# Altium footprint library PCB - DIODES - BROADCOM LED 6-PLCC 3028 2.0MM.PcbLib: 1 footprints
Each footprint in its own frame and in the unit in brackets; x right, y up, seen from the top. Pads: shape width x height; smd on the part's side, far side on the other; paste and mask are expansions set on the pad; w line width, h text height; cw(c..) or ccw(c..) is an arc to the next point about the centre after c.
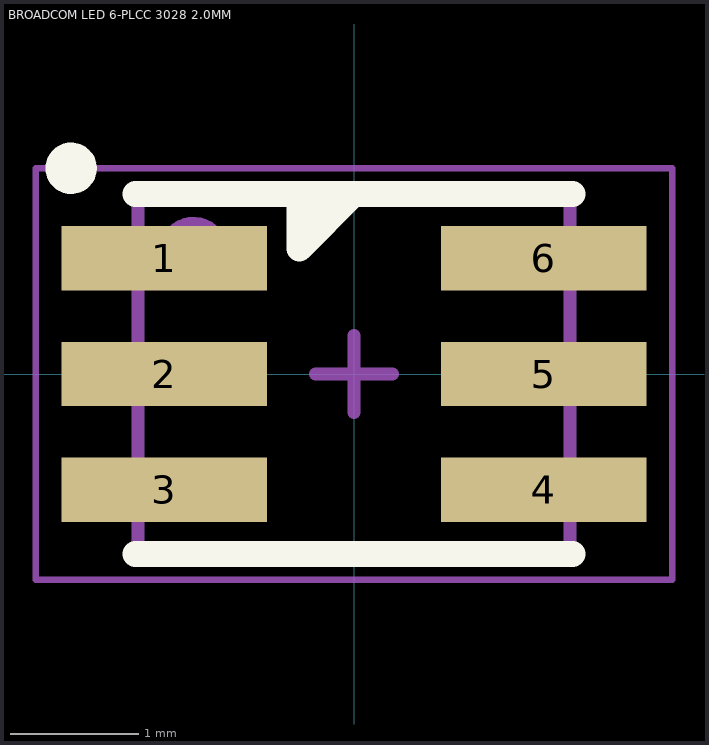
[diagram p0: the footprint, top view; thin cyan lines are the x and y axes]

## BROADCOM LED 6-PLCC 3028 2.0MM [mm] "SMD RGB LED Indication, 6 Pads, Body 3.00x2.80mm, Package 6-PLCC, J-Lead"
height 2
pads (6):
  rect 1.6x0.5 smd: 1(-1.475,0.9) 2(-1.475,0) 3(-1.475,-0.9) 4(1.475,-0.9) 5(1.475,0) 6(1.475,0.9)
Top Overlay:
  circle w0.2: c-2.2,1.6 r0.1
  region: 0,1.4 -0.425,0.975 -0.4,1.4
  region: -0.45,1.15
  region: -0.425,0.975
  lines w0.2: -1.7,-1.4 1.7,-1.4 ; -1.7,1.4 1.7,1.4 ; -0.4,1.4 -0.425,1.4 -0.425,0.975 0,1.4
Mechanical 13:
  circle w0.1: c-1.25,0.95 r0.223
  lines w0.1: -1.68,-1.4 1.68,-1.4 1.68,1.399 -1.68,1.399 -1.68,-1.4
Mechanical 15 (Mech15):
  lines w0.05: -2.475,-1.6 2.475,-1.6 2.475,1.6 -2.475,1.6 -2.475,-1.6
  lines w0.1: -0.3,0 0,0 ; 0,-0.3 0,0 ; 0,0.3 0,0 ; 0.3,0 0,0
3D body "Broadcom - LED 6-PLCC 3028 2.0MM v7 body.step": height 2, standoff 0, extent -1.68,-1.4 1.68,1.399
3D body "Broadcom - LED 6-PLCC 3028 2.0MM v7 lens.step": height 2, standoff 1.21, extent -1.15,-1.15 1.15,1.15